# EAGLE library part EPM7064-J68 (library altera)
EPM7064 MAX 7000 family
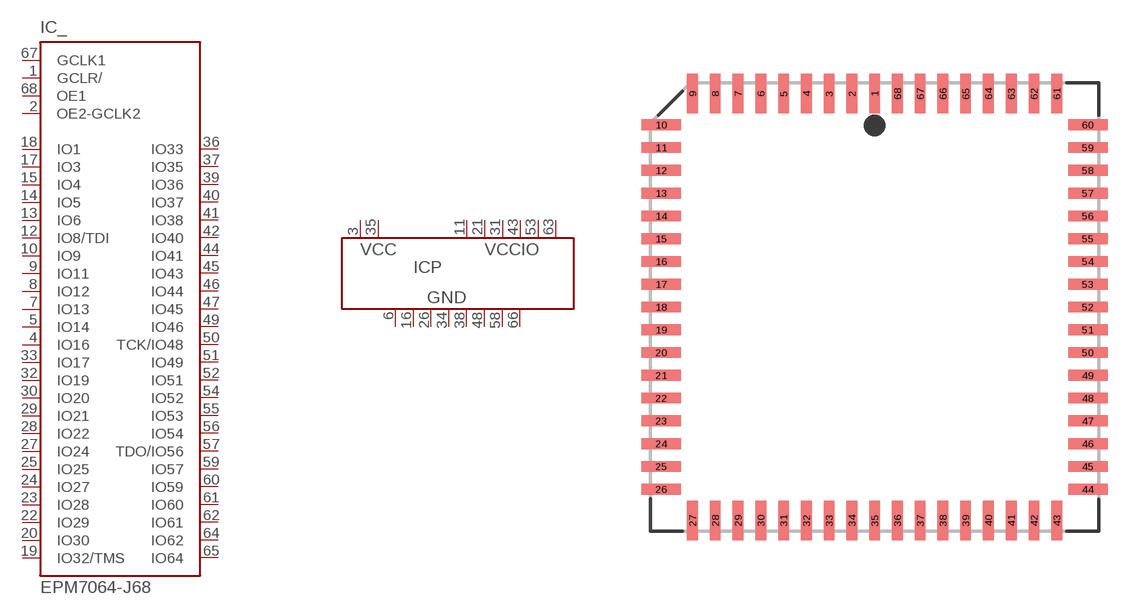
[diagram p47: symbol with the pads of PLCC68; footprint PLCC68]

Designator prefix IC; gates P=PWR8-2-6 _=7064-68

## EPM7064-J68 (OC_FARNELL: unknown; OC_NEWARK: unknown)  [PLCC68]
1  _:GCLR/  in
2  _:OE2-GCLK2  in
3  P:VCC  pwr
4  _:IO16
5  _:IO14
6  P:GND  pwr
7  _:IO13
8  _:IO12
9  _:IO11
10  _:IO9
11  P:VCCIO  pwr
12  _:IO8/TDI
13  _:IO6
14  _:IO5
15  _:IO4
16  P:GND  pwr
17  _:IO3
18  _:IO1
19  _:IO32/TMS
20  _:IO30
21  P:VCCIO  pwr
22  _:IO29
23  _:IO28
24  _:IO27
25  _:IO25
26  P:GND  pwr
27  _:IO24
28  _:IO22
29  _:IO21
30  _:IO20
31  P:VCCIO  pwr
32  _:IO19
33  _:IO17
34  P:GND  pwr
35  P:VCC  pwr
36  _:IO33
37  _:IO35
38  P:GND  pwr
39  _:IO36
40  _:IO37
41  _:IO38
42  _:IO40
43  P:VCCIO  pwr
44  _:IO41
45  _:IO43
46  _:IO44
47  _:IO45
48  P:GND  pwr
49  _:IO46
50  _:TCK/IO48
51  _:IO49
52  _:IO51
53  P:VCCIO  pwr
54  _:IO52
55  _:IO53
56  _:IO54
57  _:TDO/IO56
58  P:GND  pwr
59  _:IO57
60  _:IO59
61  _:IO60
62  _:IO61
63  P:VCCIO  pwr
64  _:IO62
65  _:IO64
66  P:GND  pwr
67  _:GCLK1  in
68  _:OE1  in

## Footprint PLCC68 (pad centres in mm)
Plastic J-Lead Chip Carrier
smd 0.6 x 2.2: 1 0,11.9; 2 -1.27,11.9; 3 -2.54,11.9; 4 -3.81,11.9; 5 -5.08,11.9; 6 -6.35,11.9; 7 -7.62,11.9; 8 -8.89,11.9; 9 -10.16,11.9; 27 -10.16,-11.9; 28 -8.89,-11.9; 29 -7.62,-11.9; 30 -6.35,-11.9; 31 -5.08,-11.9; 32 -3.81,-11.9; 33 -2.54,-11.9; 34 -1.27,-11.9; 35 0,-11.9; 36 1.27,-11.9; 37 2.54,-11.9; 38 3.81,-11.9; 39 5.08,-11.9; 40 6.35,-11.9; 41 7.62,-11.9; 42 8.89,-11.9; 43 10.16,-11.9; 61 10.16,11.9; 62 8.89,11.9; 63 7.62,11.9; 64 6.35,11.9; 65 5.08,11.9; 66 3.81,11.9; 67 2.54,11.9; 68 1.27,11.9
smd 2.2 x 0.6: 10 -11.9,10.16; 11 -11.9,8.89; 12 -11.9,7.62; 13 -11.9,6.35; 14 -11.9,5.08; 15 -11.9,3.81; 16 -11.9,2.54; 17 -11.9,1.27; 18 -11.9,0; 19 -11.9,-1.27; 20 -11.9,-2.54; 21 -11.9,-3.81; 22 -11.9,-5.08; 23 -11.9,-6.35; 24 -11.9,-7.62; 25 -11.9,-8.89; 26 -11.9,-10.16; 44 11.9,-10.16; 45 11.9,-8.89; 46 11.9,-7.62; 47 11.9,-6.35; 48 11.9,-5.08; 49 11.9,-3.81; 50 11.9,-2.54; 51 11.9,-1.27; 52 11.9,0; 53 11.9,1.27; 54 11.9,2.54; 55 11.9,3.81; 56 11.9,5.08; 57 11.9,6.35; 58 11.9,7.62; 59 11.9,8.89; 60 11.9,10.16